# EAGLE library part SWITCH_DPDT+CHASSIS (library bao)
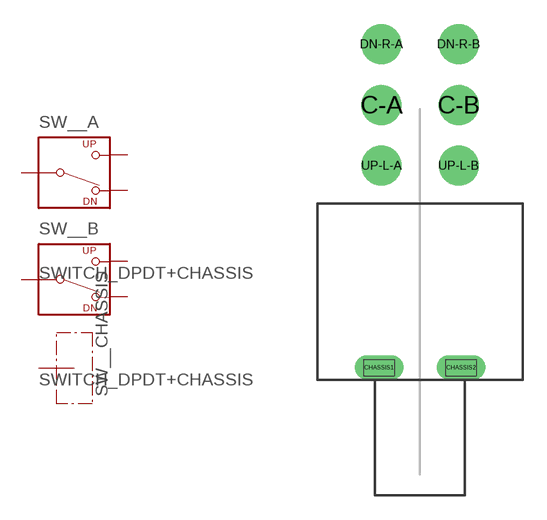
[diagram p19: symbol with the pads of SWITCH_DPDT_NEWYORK; footprint SWITCH_DPDT_NEWYORK]

Designator prefix SW_; gates _B=SWITCH_SPDT_UP-DN _A=SWITCH_SPDT_UP-DN _CHASSIS=CHASSIS

## SWITCH_DPDT+CHASSIS_NY_UP-L (NHPREF: 158; POPULATE: TRUE; VALUE: dpdt_NY)  [SWITCH_DPDT_NEWYORK]
C-A  _A:C
C-B  _B:C
CHASSIS1  _CHASSIS:CHASSIS  pas
CHASSIS2  _CHASSIS:CHASSIS  pas
DN-R-A  _A:DN
DN-R-B  _B:DN
UP-L-A  _A:UP
UP-L-B  _B:UP

## Footprint SWITCH_DPDT_NEWYORK (pad centres in mm)
UP-L
drill 1.651: C-A -2.388,17.018; C-B 2.388,17.018; DN-R-A -2.388,20.777; DN-R-B 2.388,20.777; UP-L-A -2.388,13.259; UP-L-B 2.388,13.259
drill 1.016 pad 1.27 long: CHASSIS1 -2.54,0.76; CHASSIS2 2.54,0.76